# Altium footprint library LDR.PcbLib: 1 footprints
Each footprint in its own frame and in the unit in brackets; x right, y up, seen from the top. Pads: shape width x height; smd on the part's side, far side on the other; paste and mask are expansions set on the pad; w line width, h text height; cw(c..) or ccw(c..) is an arc to the next point about the centre after c.
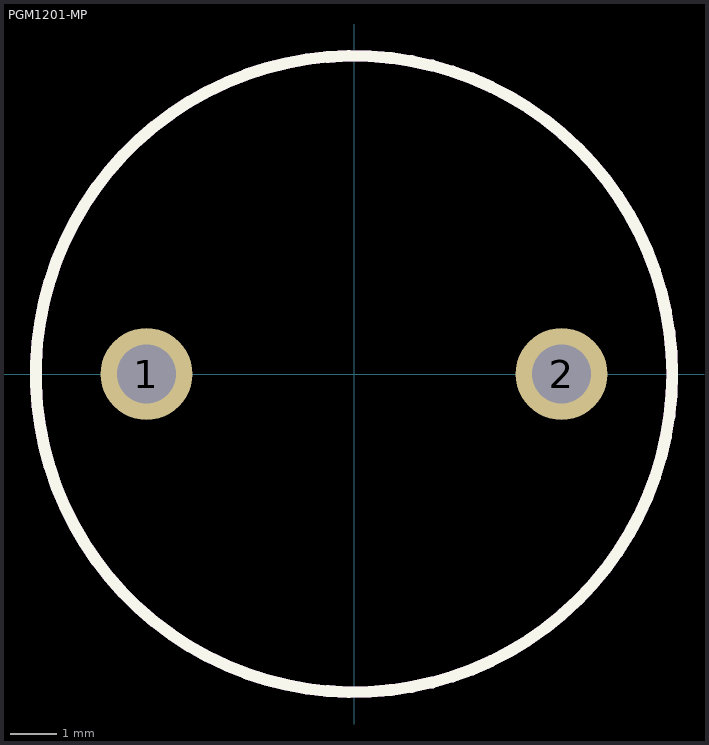
[diagram p0: the footprint, top view; thin cyan lines are the x and y axes]

## PGM1201-MP [mm]
pads (2):
  round 2 hole 1.27: 1(-4.5,0) 2(4.5,0)
Top Overlay:
  circle w0.254: c0,0 r6.9
Mechanical 1:
  circle w0.254: c0,0 r6.9
3D body "PGM1201-MP.stp": height 22.35, standoff -14.75, extent -6.9,-6.894 6.9,6.894